# Altium footprint library PcbLib_tree_grain.PcbLib: 22 footprints (part 1 of 2)
Each footprint in its own frame and in the unit in brackets; x right, y up, seen from the top. Pads: shape width x height; smd on the part's side, far side on the other; paste and mask are expansions set on the pad; w line width, h text height; cw(c..) or ccw(c..) is an arc to the next point about the centre after c.
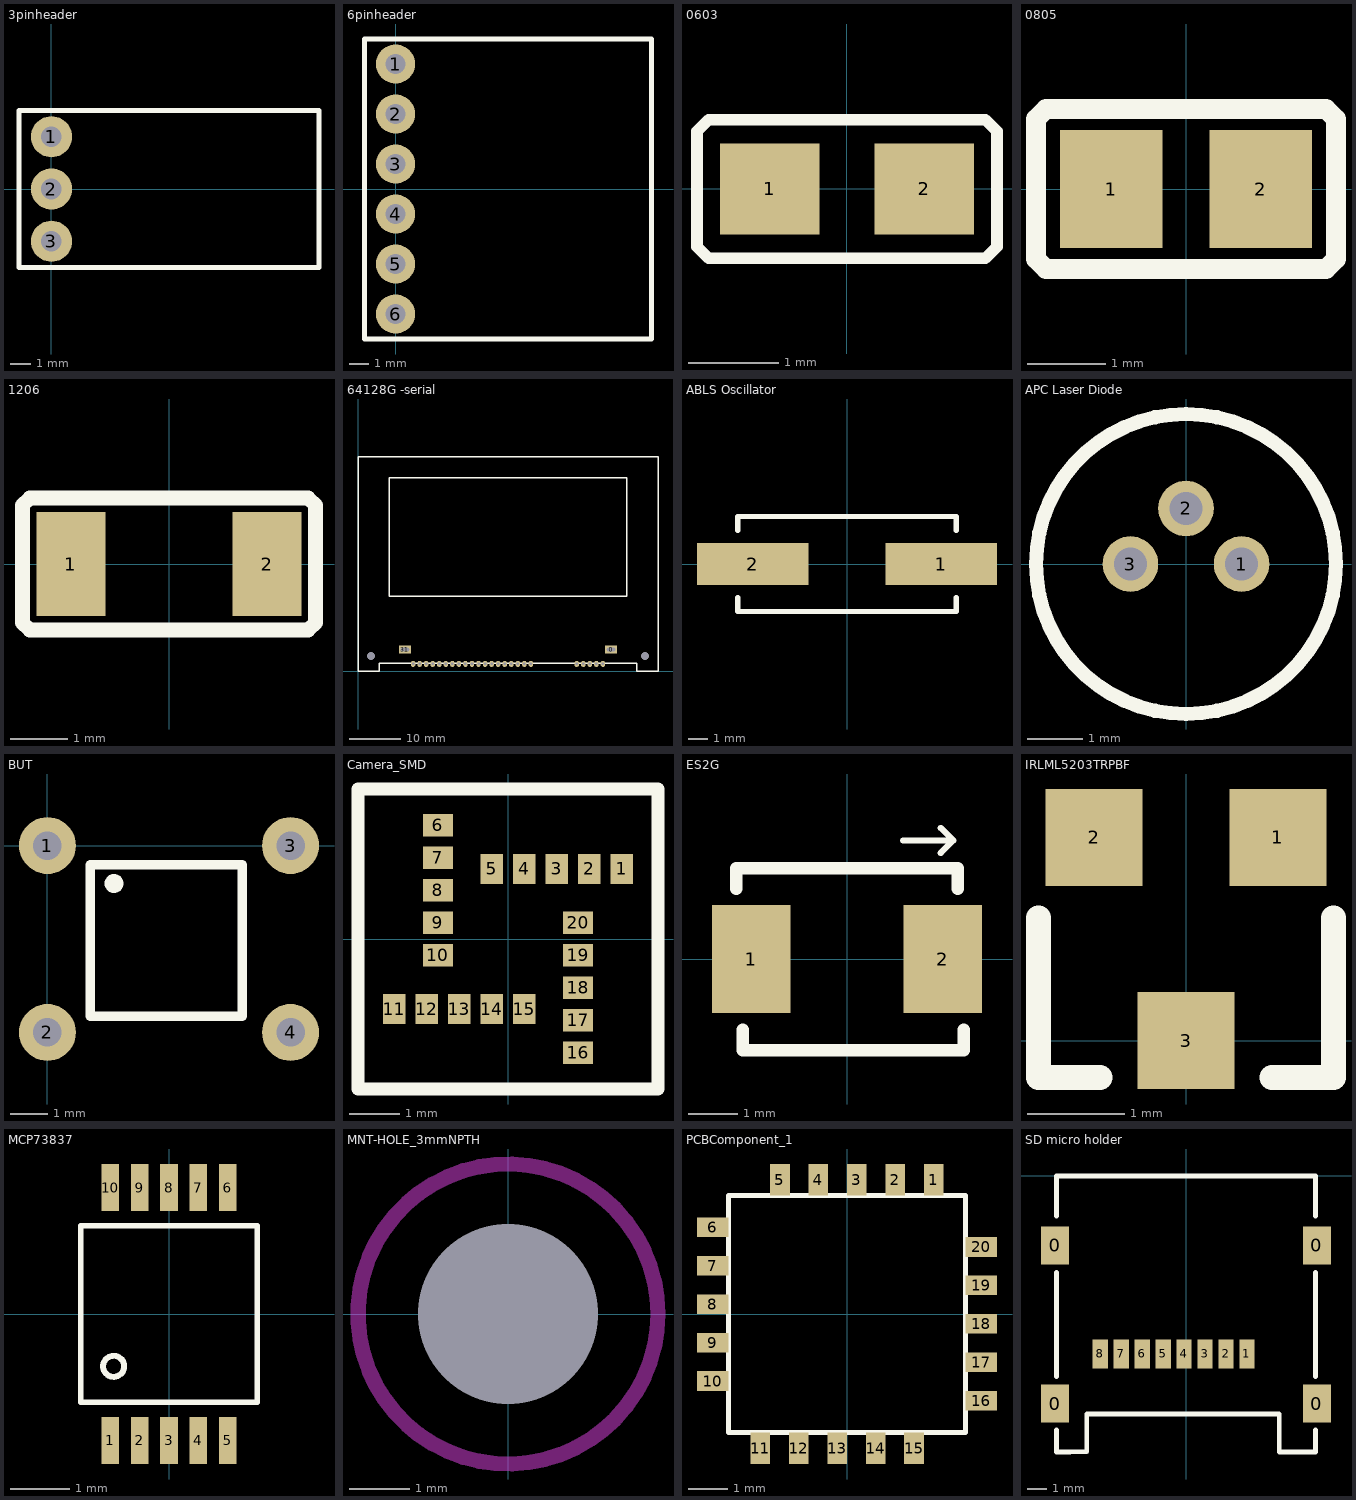
[diagram p0: the footprints below, top view; thin cyan lines are the x and y axes]

## 3pinheader [mm] "3 pin 2.54mm pitch right angle header"
height 5.8
pads (3):
  round 2 hole 1: 1(0,2.54) 2(0,0) 3(0,-2.54)
Top Overlay:
  lines w0.254: -1.575,-3.81 -1.575,3.81 13,3.81 13,-3.81 -1.575,-3.81

## 6pinheader [mm] "6 pin 2.54mm pitch right angle header"
height 5.8
pads (6):
  round 2 hole 1: 1(0,6.35) 2(0,3.81) 3(0,1.27) 4(0,-1.27) 5(0,-3.81) 6(0,-6.35)
Top Overlay:
  lines w0.254: -1.575,-7.62 13,-7.62 13,7.62 -1.575,7.62 -1.575,-7.62

## 0603 [mm] "generic 0603 Cap/Res"
height 0.6
pads (2):
  rect 1.1x1 smd: 1(-0.85,0) 2(0.85,0)
Top Overlay:
  lines w0.127: -1.651,-0.635 -1.524,-0.762 1.524,-0.762 1.651,-0.635 1.651,0.635 1.524,0.762 -1.524,0.762 -1.651,0.635 -1.651,-0.635

## 0805 [mm] "generic 0805 Cap/Res"
height 0.65
pads (2):
  rect 1.3x1.5 smd: 1(-0.95,0) 2(0.95,0)
Top Overlay:
  lines w0.254: -1.905,-0.889 -1.778,-1.016 1.778,-1.016 1.905,-0.889 1.905,0.889 1.778,1.016 -1.778,1.016 -1.905,0.889 -1.905,0.762 -1.905,-0.889

## 1206 [mm] "generic 1206 component footprint"
height 1
pads (2):
  rect 1.2x1.8 smd: 1(-1.7,0) 2(1.7,0)
Top Overlay:
  lines w0.254: -2.54,-1.016 -2.413,-1.143 2.413,-1.143 2.54,-1.016 2.54,1.016 2.413,1.143 -2.413,1.143 -2.54,1.016 -2.54,-1.016

## 64128G -serial [mm] "Displaytech 64x128 pixel LCD module with backlight and unused parallel pins missing"
height 5.7
pads (28):
  rect 2.3x1.5 hole 0.7 slot 1.6 at 0 deg: 0(49.1,4.25) 31(9.1,4.25)
  oval 0.856x1.2 hole 0.5: 1(47.515,1.47) 2(46.245,1.47) 3(44.975,1.47) 4(43.705,1.47) 5(42.435,1.47) 12(33.545,1.47) 13(32.275,1.47) 14(31.005,1.47) 15(29.735,1.47) 16(28.465,1.47) 17(27.195,1.47) 18(25.925,1.47) 19(24.655,1.47) 20(23.385,1.47) 21(22.115,1.47) 22(20.845,1.47) 23(19.575,1.47) 24(18.305,1.47) 25(17.035,1.47) 26(15.765,1.47) 27(14.495,1.47) 28(13.225,1.47) 29(11.955,1.47) 30(10.685,1.47)
  round 0 hole 1.5 unplated: MNT1(2.5,3) MNT2(55.7,3)
Top Overlay:
  lines w0.254: 0,0 0,41.7 58.2,41.7 58.2,0 54.1,0 54.1,1.6 4.1,1.6 4.1,0 0,0 ; 6.07,14.59 6.07,37.6 52.12,37.6 52.12,14.59 6.07,14.59

## ABLS Oscillator [mm] "SMD Crystal Oscilaltor"
height 2
pads (2):
  rect 5.6x2.1 smd: 1(4.75,0) 2(-4.75,0)
Top Overlay:
  lines w0.254: -5.5,-1.69 -5.5,-2.4 5.5,-2.4 5.5,-1.69 ; -5.5,1.69 -5.5,2.4 5.5,2.4 5.5,1.69

## APC Laser Diode [mm]
height 3.5
pads (3):
  round 1 hole 0.6: 1(1,0) 2(0,1) 3(-1,0)
Top Overlay:
  circle w0.254: c0,0 r2.7

## BUT [mil] "Start/Stop push button"
pads (4):
  round 60 hole 30: 1(0,0) 2(0,-196.85) 3(255.91,0) 4(255.91,-196.85)
Top Overlay:
  circle w10: c70,-40 r5
  lines w10: 45,-180 205,-180 205,-20 45,-20 45,-180

## Camera_SMD [mm] "Toshiba camera landing pattern"
height 4.5
pads (20):
  rect 0.45x0.6 smd: 1(2.275,1.4) 2(1.625,1.4) 3(0.975,1.4) 4(0.325,1.4) 5(-0.325,1.4) 11(-2.275,-1.4) 12(-1.625,-1.4) 13(-0.975,-1.4) 14(-0.325,-1.4) 15(0.325,-1.4)
  rect 0.6x0.45 smd: 6(-1.4,2.275) 7(-1.4,1.625) 8(-1.4,0.975) 9(-1.4,0.325) 10(-1.4,-0.325) 16(1.4,-2.275) 17(1.4,-1.625) 18(1.4,-0.975) 19(1.4,-0.325) 20(1.4,0.325)
Top Overlay:
  lines w0.254: -3,-3 3,-3 3,3 -3,3 -3,-3

## ES2G [mm] "ES2G 400V diode"
height 2.5
pads (2):
  rect 1.6x2.2 smd: 1(-1.95,0) 2(1.95,0)
Top Overlay:
  lines w0.127: 1.143,2.413 2.159,2.413 ; 1.905,2.159 2.159,2.413 ; 1.905,2.667 2.159,2.413
  lines w0.254: -2.25,1.433 -2.25,1.85 2.25,1.85 2.25,1.433 ; -2.123,-1.433 -2.123,-1.85 2.377,-1.85 2.377,-1.433

## IRLML5203TRPBF [mm] "SOT-23 package for the IRLML5203TRPBF"
height 1.1
pads (3):
  rect 1x1 smd: 1(0.95,2.1) 2(-0.95,2.1) 3(0,0)
Top Overlay:
  lines w0.254: -1.524,1.27 -1.524,-0.381 -0.889,-0.381 ; 0.889,-0.381 1.524,-0.381 1.524,1.27

## MCP73837 [mm] "Li ion Battery charger"
height 1.1
pads (10):
  rect 0.3x0.8 smd: 1(-1,-2.15) 2(-0.5,-2.15) 3(0,-2.15) 4(0.5,-2.15) 5(1,-2.15) 6(1,2.15) 7(0.5,2.15) 8(0,2.15) 9(-0.5,2.15) 10(-1,2.15)
Top Overlay:
  circle w0.1: c-0.942,-0.889 r0.18
  lines w0.1: -1.5,-1.5 -1.5,1.5 1.5,1.5 1.5,-1.5 -1.5,-1.5

## MNT-HOLE_3mmNPTH [mm] "Mounting Hole 3mm non plated"
pads (1):
  round 0 hole 3 unplated: 1(0,0)
Keep-Out Layer:
  circle w0.254: c0,0 r2.5

## PCBComponent_1 [mm]
pads (20):
  rect 0.5x0.8 smd: 1(2.2,3.4) 2(1.225,3.4) 3(0.25,3.4) 4(-0.725,3.4) 5(-1.7,3.4) 11(-2.2,-3.4) 12(-1.225,-3.4) 13(-0.25,-3.4) 14(0.725,-3.4) 15(1.7,-3.4)
  rect 0.8x0.5 smd: 6(-3.4,2.2) 7(-3.4,1.225) 8(-3.4,0.25) 9(-3.4,-0.725) 10(-3.4,-1.7) 16(3.4,-2.2) 17(3.4,-1.225) 18(3.4,-0.25) 19(3.4,0.725) 20(3.4,1.7)
Top Overlay:
  lines w0.127: -3,-3 -3,3 3,3 3,-3 -3,-3

## SD micro holder [mm] "latched micro sd holder"
height 2
pads (12):
  rect 1.45x2 smd: 0(-6.875,-11.95) 0(-6.875,-3.65) 0(6.875,-11.95) 0(6.875,-3.65)
  rect 0.8x1.5 smd: 1(3.2,-9.35) 2(2.1,-9.35) 3(1,-9.35) 4(-0.1,-9.35) 5(-1.2,-9.35) 6(-2.3,-9.35) 7(-3.4,-9.35) 8(-4.5,-9.35)
Top Overlay:
  lines w0.254: -6.8,-13.335 -6.8,-14.5 -6.074,-14.5 -6.052,-14.478 -5.207,-14.478 -5.207,-12.5 4.899,-12.5 4.899,-14.5 6.8,-14.5 6.8,-13.335 ; -6.8,-10.541 -6.8,-5.08 ; -6.8,-2.101 -6.8,0 6.8,0 6.8,-2.101 ; 6.8,-10.541 6.8,-5.08